# Altium schematic symbol library DCDC-Converters.SchLib: 13 symbols
Pins are listed as number, name and electrical type; pins without a type are passive.

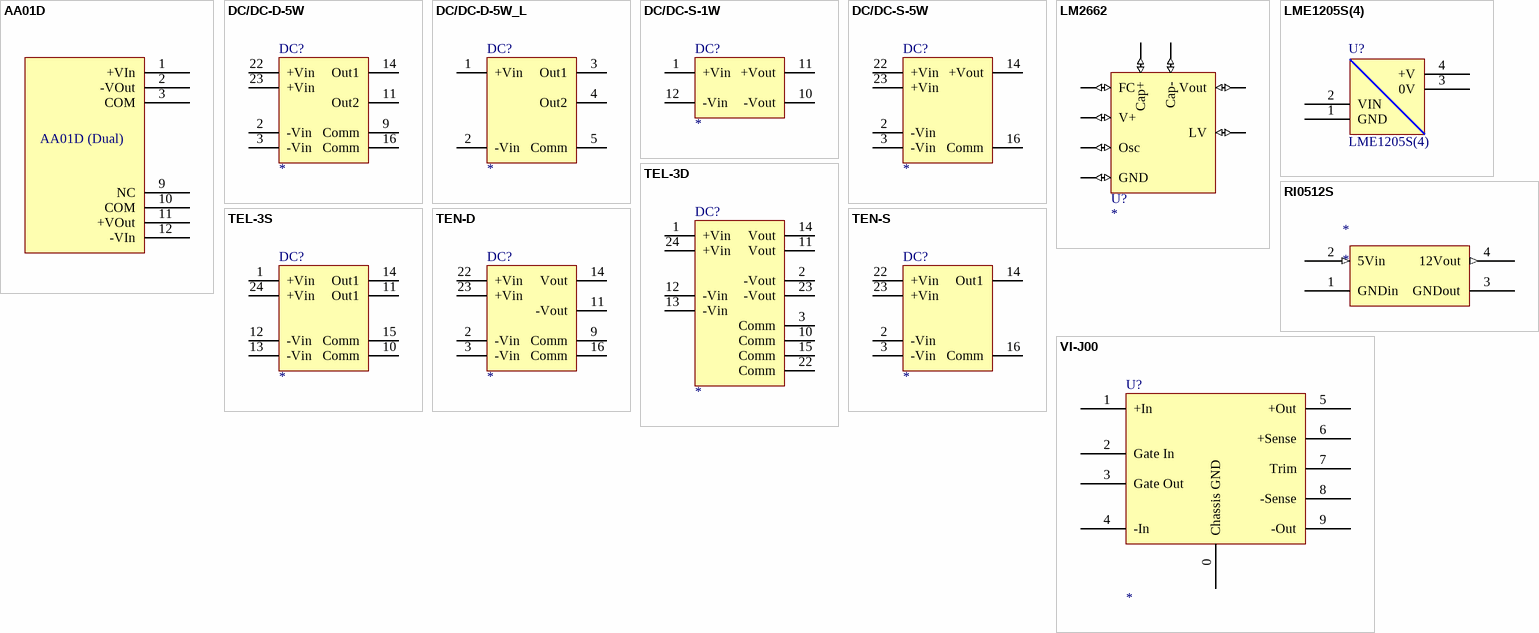
[diagram p0: symbols AA01D to VI-J00]

## AA01D
designator ?
Astec 1.5W Dual Output DCDC Coverter
pins: 1 +VIn, 2 -VOut, 3 COM, 9 NC, 10 COM, 11 +VOut, 12 -VIn
text: AA01D (Dual)

## DC/DC-D-5W
designator DC?
DC/DC converter, 5W, with dual output
footprint Astec-5W
pins: 2 -Vin, 3 -Vin, 9 Comm, 10 nc hidden to nc, 11 Out2, 14 Out1, 15 nc hidden to nc, 16 Comm, 22 +Vin, 23 +Vin

## DC/DC-D-5W_L
designator DC?
DC/DC converter, 5W, with dual output
footprint Astec-5W_L
pins: 1 +Vin, 2 -Vin, 3 Out1, 4 Out2, 5 Comm

## DC/DC-S-1W
designator DC?
DC/DC converter, 1W, with single ended output
footprint Astec-1W
pins: 1 +Vin, 2 nc hidden to nc, 3 nc hidden to nc, 9 nc hidden to nc, 10 -Vout, 11 +Vout, 12 -Vin

## DC/DC-S-5W
designator DC?
DC/DC converter, 5W, with single ended output
footprint DC-DIP24
footprint DC-DIP24B
pins: 2 -Vin, 3 -Vin, 9 nc hidden to nc, 10 nc hidden to nc, 11 nc hidden to nc, 14 +Vout, 15 nc hidden to nc, 16 Comm, 22 +Vin, 23 +Vin

## LM2662
designator U?
Switched Capacitor Voltage Converter
footprint DIP-8
footprint SO-8
pins: 1 FC (io), 2 Cap+ (io), 3 GND (io), 4 Cap- (io), 5 Vout (io), 6 LV (io), 7 Osc (io), 8 V+ (io)

## LME1205S(4)
designator U?
DC/DC converter, Isolated 250mW Single Output; Part Field 1: .283-411; Part Field 2: 36.23; Part Field 3: Farnell
footprint NPSIP4
footprint NPSIP4(RA)
pins: 1 GND (power), 2 VIN (power), 3 0V (power), 4 +V (power)

## RI0512S
designator *
5V-12V isolated
footprint SIP4
pins: 1 GNDin, 2 5Vin (in), 3 GNDout, 4 12Vout (out)

## TEL-3D
designator DC?
DC/DC converter, with dual output
footprint TRACO
pins: 1 +Vin, 2 -Vout, 3 Comm, 10 Comm, 11 Vout, 12 -Vin, 13 -Vin, 14 Vout, 15 Comm, 22 Comm, 23 -Vout, 24 +Vin

## TEL-3S
designator DC?
DC/DC converter, with single output
footprint TRACO
pins: 1 +Vin, 10 Comm, 11 Out1, 12 -Vin, 13 -Vin, 14 Out1, 15 Comm, 24 +Vin

## TEN-D
designator DC?
DC/DC converter, with dual output
footprint TRACO
pins: 2 -Vin, 3 -Vin, 9 Comm, 11 -Vout, 14 Vout, 16 Comm, 22 +Vin, 23 +Vin

## TEN-S
designator DC?
DC/DC converter, with dual output
footprint TRACO
pins: 2 -Vin, 3 -Vin, 14 Out1, 16 Comm, 22 +Vin, 23 +Vin

## VI-J00
designator U?
VI-J00 Switch Mode DC-DC Converter
footprint VI-J00
pins: 0 Chassis GND, 1 +In, 2 Gate In, 3 Gate Out, 4 -In, 5 +Out, 6 +Sense, 7 Trim, 8 -Sense, 9 -Out